# Altium schematic symbol library B1100-13-F.SchLib: 1 symbol
Pins are listed as number, name and electrical type; pins without a type are passive.

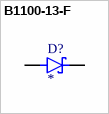
[diagram p0: symbol B1100-13-F]

## B1100-13-F
designator D?
footprint B1100-13-F
pins: A, C